# Altium footprint library PcbLib.PcbLib: 44 footprints (part 2 of 3)
Each footprint in its own frame and in the unit in brackets; x right, y up, seen from the top. Pads: shape width x height; smd on the part's side, far side on the other; paste and mask are expansions set on the pad; w line width, h text height; cw(c..) or ccw(c..) is an arc to the next point about the centre after c.
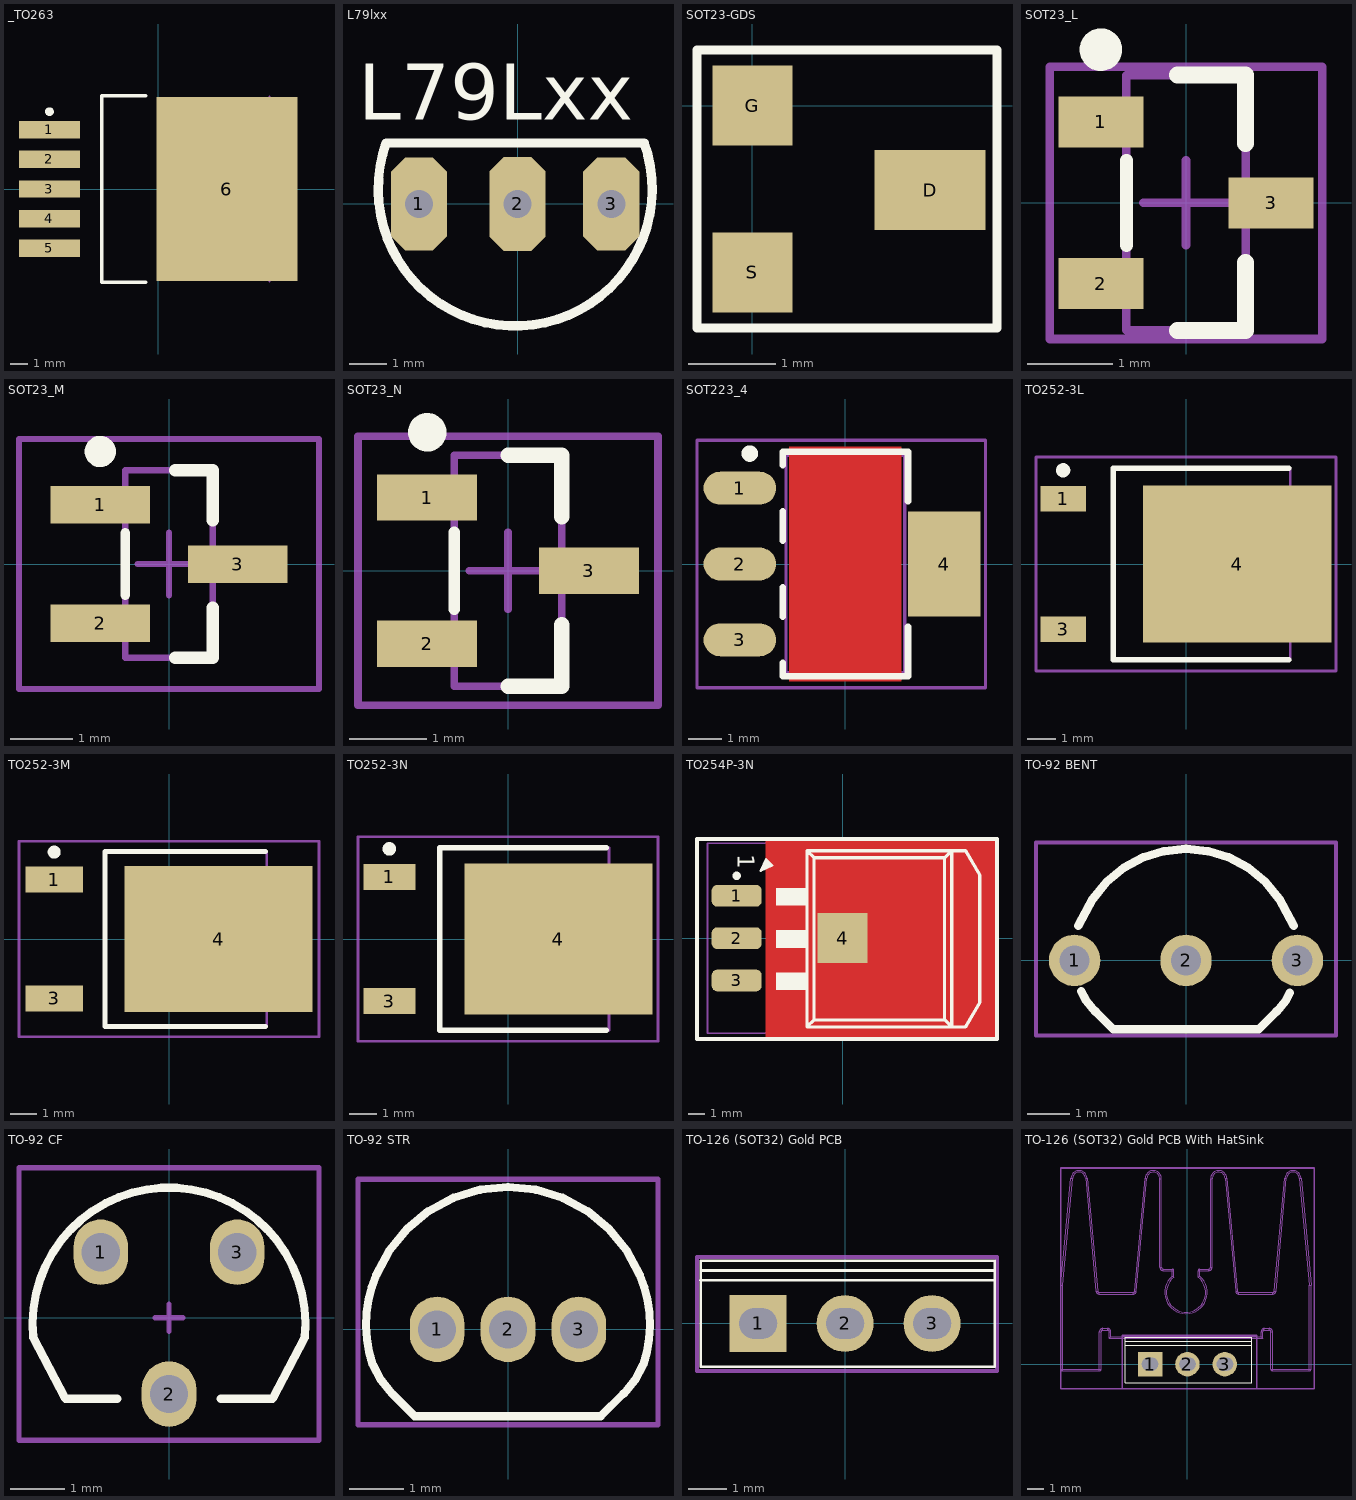
[diagram p1: the footprints below, top view; thin cyan lines are the x and y axes]

## _TO263 [mm] "D2-PAK, 6-Leads, Body 8.9x10.2mm, Pitch 1.7mm, Lead Span 15.2mm, IPC High Density"
height 4.83
pads (6):
  rect 3.5x1 smd: 1(-6.25,3.4) 2(-6.25,1.7) 3(-6.25,0) 4(-6.25,-1.7) 5(-6.25,-3.4)
  rect 8.1x10.6 smd: 6(3.95,0)
Top Overlay:
  circle w0.25: c-6.25,4.45 r0.125
  lines w0.2: -0.7,-5.35 -3.25,-5.35 -3.25,5.35 -0.7,5.35
Mechanical 13:
  lines w0.1: -3.25,-5.325 -3.25,5.325 ; 6.4,-5.325 6.4,5.325

## L79lxx [mil] "Negative Voltage Regulator"
pads (3):
  oct 60x99.37 hole 30: 1(-105,0) 3(100,0)
  oct 60x100 hole 30: 2(0,0)
Top Overlay:
  lines w10: -140,65 ccw(c-2.5,15.96) 135,65 -140,65
  text "L79Lxx" at -170,90 h60

## SOT23-GDS [mil]
pads (3):
  rect 50x36 smd: D(80,-38)
  rect 36x36 smd: G(0,0) S(0,-75)
Top Overlay:
  lines w4: -24.88,11.02 -24.88,12.02 ; -24.88,15.02 -24.88,25.02 ; -10.88,25.02 -8.88,25.02 ; -9.88,25.02 -24.88,25.02 ; -24.88,25.02 -24.88,-99.98 110.12,-99.98 110.12,25.02 -24.88,25.02
3D body "SW3dPS-3-lead sot23-3.STEP": height 40.59, standoff 0.43, extent -3.48,-95 94,19.96

## SOT23_L [mm] "SOT23, 3-Leads, Body 2.9x1.3mm, Pitch 0.95mm, Lead Span 2.3mm, IPC High Density"
height 1.1
pads (3):
  rect 1x0.6 smd: 1(-1,0.95) 2(-1,-0.95) 3(1,0)
Top Overlay:
  circle w0.25: c-1,1.8 r0.125
  lines w0.15: -0.7,-0.5 -0.7,0.5
  lines w0.2: -0.1,-1.5 0.7,-1.5 0.7,-0.7 ; -0.1,1.5 0.7,1.5 0.7,0.7
Mechanical 13:
  lines w0.1: -0.7,-1.5 -0.7,1.5 0.7,1.5 0.7,-1.5 -0.7,-1.5
Mechanical 15:
  lines w0.1: -0.5,0 0.5,0 ; 0,-0.5 0,0.5 ; -1.6,-1.6 -1.6,1.6 1.6,1.6 1.6,-1.6 -1.6,-1.6
3D body "User Library-SOT-23-3-1.STEP": height 1.1, standoff 0, extent -1.271,-1.5 1.271,1.5

## SOT23_M [mm] "SOT23, 3-Leads, Body 2.9x1.3mm, Pitch 0.95mm, Lead Span 2.3mm, IPC Low Density"
height 1.1
pads (3):
  rect 1.6x0.6 smd: 1(-1.1,0.95) 2(-1.1,-0.95) 3(1.1,0)
Top Overlay:
  circle w0.25: c-1.1,1.8 r0.125
  lines w0.15: -0.7,-0.5 -0.7,0.5
  lines w0.2: 0.1,-1.5 0.7,-1.5 0.7,-0.7 ; 0.1,1.5 0.7,1.5 0.7,0.7
Mechanical 13:
  lines w0.1: -0.7,-1.5 0.7,-1.5 0.7,1.5 -0.7,1.5 -0.7,-1.5
Mechanical 15:
  lines w0.1: -0.5,0 0.5,0 ; 0,-0.5 0,0.5 ; -2.4,-2 2.4,-2 2.4,2 -2.4,2 -2.4,-2
3D body "User Library-SOT-23-3-1.STEP": height 1.1, standoff 0, extent -1.271,-1.5 1.271,1.5

## SOT23_N [mm] "SOT23, 3-Leads, Body 2.9x1.3mm, Pitch 0.95mm, Lead Span 2.3mm, IPC Medium Density"
height 1.1
pads (3):
  rect 1.3x0.6 smd: 1(-1.05,0.95) 2(-1.05,-0.95) 3(1.05,0)
Top Overlay:
  circle w0.25: c-1.05,1.8 r0.125
  lines w0.15: -0.7,-0.5 -0.7,0.5
  lines w0.2: 0,-1.5 0.7,-1.5 0.7,-0.7 ; 0,1.5 0.7,1.5 0.7,0.7
Mechanical 13:
  lines w0.1: -0.7,-1.5 -0.7,1.5 0.7,1.5 0.7,-1.5 -0.7,-1.5
Mechanical 15:
  lines w0.1: -0.5,0 0.5,0 ; 0,-0.5 0,0.5 ; -1.95,-1.75 -1.95,1.75 1.95,1.75 1.95,-1.75 -1.95,-1.75
3D body "User Library-SOT-23-3-1.STEP": height 1.1, standoff 0, extent -1.271,-1.5 1.271,1.5

## SOT223_4 [mm] "SOT223, 4-Leads, Body 6.5x3.5mm, Pitch 2.30mm-Designer Abbas Basereh"
height 1.8
pads (4):
  oval 2.2x1 smd: 1(-3.2,2.3) 2(-3.2,0) 3(-3.2,-2.3)
  rect 2.2x3.2 smd: 4(3,0)
Top Layer:
  pour cut-out: -1.7,3.556 1.7,3.556 1.7,-3.556 -1.7,-3.556
Top Overlay:
  circle w0.25: c-2.9,3.35 r0.125
  lines w0.2: -1.9,-3 -1.9,-3.4 1.9,-3.4 1.9,-1.9 ; -1.9,-1.6 -1.9,-0.7 ; -1.9,0.7 -1.9,1.6 ; -1.9,3 -1.9,3.4 1.9,3.4 1.9,1.9
Mechanical 13:
  lines w0.1: -1.8,-3.3 -1.8,3.3 1.8,3.3 1.8,-3.3 -1.8,-3.3
Mechanical 15:
  lines w0.1: -0.5,0 0.5,0 ; 0,-0.5 0,0.5 ; -4.5,-3.75 4.25,-3.75 4.25,3.75 -4.5,3.75 -4.5,-3.75
3D body "User Library-SOT223-3.step": height 1.7, standoff 0, extent -3.5,-3.25 3.5,3.25

## TO252-3L [mm] "D-PAK, 3-Pads, Body 6.2x6.7mm (max), IPC High Density"
height 2.38
pads (3):
  rect 1.6x0.9 smd: 1(-4.3,2.28) 3(-4.3,-2.28)
  rect 6.6x5.5 smd: 4(1.8,0)
Top Overlay:
  circle w0.25: c-4.3,3.28 r0.125
  lines w0.2: 3.6,-3.35 -2.55,-3.35 -2.55,3.35 3.6,3.35
Mechanical 13:
  lines w0.1: -2.55,-3.35 -2.55,3.35 3.65,3.35 3.65,-3.35 -2.55,-3.35
Mechanical 15:
  lines w0.1: -0.5,0 0.5,0 ; 0,-0.5 0,0.5 ; -5.25,-3.75 -5.25,3.75 5.25,3.75 5.25,-3.75 -5.25,-3.75
3D body "User Library-DPAK-1.step": height 2.39, standoff -0.02, extent -5.061,-3.27 4.878,3.27

## TO252-3M [mm] "D-PAK, 3-Pads, Body 6.2x6.7mm (max), IPC Low Density"
height 2.38
pads (3):
  rect 2.2x1 smd: 1(-4.4,2.28) 3(-4.4,-2.28)
  rect 7.2x5.6 smd: 4(1.9,0)
Top Overlay:
  circle w0.25: c-4.4,3.33 r0.125
  lines w0.2: 3.7,-3.35 -2.45,-3.35 -2.45,3.35 3.7,3.35
Mechanical 13:
  lines w0.1: -2.45,-3.35 3.75,-3.35 3.75,3.35 -2.45,3.35 -2.45,-3.35
Mechanical 15:
  lines w0.1: -0.5,0 0.5,0 ; 0,-0.5 0,0.5 ; -5.75,-3.75 -5.75,3.75 5.75,3.75 5.75,-3.75 -5.75,-3.75
3D body "User Library-DPAK-1.step": height 2.39, standoff -0.02, extent -5.061,-3.27 4.878,3.27

## TO252-3N [mm] "D-PAK, 3-Pads, Body 6.2x6.7mm (max), IPC Medium Density"
height 2.38
pads (3):
  rect 1.9x0.95 smd: 1(-4.35,2.28) 3(-4.35,-2.28)
  rect 6.9x5.55 smd: 4(1.85,0)
Top Overlay:
  circle w0.25: c-4.35,3.305 r0.125
  lines w0.2: 3.6,-3.35 -2.5,-3.35 -2.5,3.35 3.6,3.35
Mechanical 13:
  lines w0.1: -2.5,-3.35 3.7,-3.35 3.7,3.35 -2.5,3.35 -2.5,-3.35
Mechanical 15:
  lines w0.1: -0.5,0 0.5,0 ; 0,-0.5 0,0.5 ; -5.5,-3.75 5.5,-3.75 5.5,3.75 -5.5,3.75 -5.5,-3.75
3D body "User Library-DPAK-1.step": height 2.39, standoff -0.02, extent -5.061,-3.27 4.878,3.27

## TO254P-3N [mm]
pads (4):
  rrect50% 3x1.3 smd: 1(-6.35,2.54) 2(-6.35,0) 3(-6.35,-2.54)
  rect 3x3 smd: 4(0,0)
Top Layer:
  region: -4.634,5.949 -4.634,-6.051 9.258,-6.051 9.258,5.949
Top Overlay:
  circle w0.25: c-6.35,3.742 r0.125
  region: -3.988,3.022 -3.988,1.956 -2.108,1.956 -2.108,3.022
  region: -3.988,-2.057 -3.988,-3.124 -2.108,-3.124 -2.108,-2.057
  region: -3.988,0.483 -3.988,-0.584 -2.108,-0.584 -2.108,0.483
  lines w0.127: -4.919,4.028 -4.208,4.358 -4.4,4.547 ; -4.919,4.028 -4.589,4.739 -4.4,4.547 ; -4.919,4.028 -4.4,4.547
  lines w0.178: -4.716,4.383 -4.538,4.561 ; -4.564,4.231 -4.386,4.409
  lines w0.2: -2.134,-5.329 -2.134,5.254 ; -2.134,-5.329 6.545,-5.329 ; -2.134,-5.329 -1.71,-4.906 ; -2.134,5.254 6.545,5.254 ; -2.134,5.254 -1.71,4.831 ; -1.71,-4.906 6.121,-4.906 ; -1.71,-4.906 -1.71,4.831 ; -1.71,4.831 6.121,4.831 ; 6.121,-4.906 6.121,4.831 ; 6.121,-4.906 6.545,-5.329 ; 6.121,4.831 6.545,5.254 ; 6.545,-5.329 6.545,5.254 ; 6.545,-5.329 7.366,-5.329 8.238,-3.847 8.238,3.773 7.366,5.254 6.545,5.254
  lines w0.254: -8.731,-6.051 9.269,-6.051 9.269,5.949 -8.731,5.949 -8.731,-6.051
  text "1" at -6.299,5.026 h1
Top Paste:
  region: -0.431,3.773 -0.431,-3.847 7.595,-3.847 7.595,3.773
Top Solder:
  region: -2.413,5.505 -2.413,-5.621 8.179,-5.621 8.179,5.505
  lines w0.254: 8.554,-3.938 8.131,-5.419 ; 8.554,3.863 8.131,5.344 ; -2.462,-5.329 ccw(c-2.134,-5.329) -2.134,-5.658 ; -2.462,-5.329 ccw(c-2.134,-5.329) -2.134,-5.658 ; -2.462,-5.329 -2.462,5.254 ; -2.462,5.254 cw(c-2.134,5.254) -2.134,5.583 ; -2.462,5.254 cw(c-2.134,5.254) -2.134,5.583 ; -2.134,-5.658 6.545,-5.658 7.815,-5.658 ; -2.134,5.583 6.545,5.583 7.815,5.583 ; 7.815,-5.658 ccw(c7.815,-5.329) 8.131,-5.42 ; 7.815,-5.658 ccw(c7.815,-5.329) 8.131,-5.42 ; 7.815,5.583 cw(c7.815,5.254) 8.131,5.345 ; 7.815,5.583 cw(c7.815,5.254) 8.131,5.345 ; 8.567,-3.847 cw(c8.238,-3.847) 8.554,-3.938 ccw(c8.238,-3.847) 8.567,-3.847 ; 8.567,-3.847 8.567,3.773 ; 8.567,3.773 ccw(c8.238,3.773) 8.554,3.863 cw(c8.238,3.773) 8.567,3.773
  lines w0.508: 8.196,-4.669 8.196,4.577
Mechanical 13:
  lines w0.1: -2.675,-4.985 -2.675,4.985 6.475,4.985 6.475,-4.985 -2.675,-4.985
Mechanical 15:
  lines w0.1: -0.5,0 0.5,0 ; 0,-0.5 0,0.5 ; -8.1,-5.7 -8.1,5.7 8.1,5.7 8.1,-5.7 -8.1,-5.7
3D body "254-3.STEP": height 2.53, standoff -0.02, extent -7.339,-5.087 8.101,5.08

## TO-92 BENT [mm] "DESIGNER :ABBAS BASEREH"
height 8
pads (3):
  round 1.2 hole 0.7: 1(-2.6,0) 2(0,0) 3(2.6,0)
Top Overlay:
  lines w0.2: -2.512,0.806 -2.173,1.441 -1.848,1.837 -1.452,2.162 -1,2.403 -0.51,2.552 0,2.602 0.51,2.552 1,2.403 1.452,2.162 1.848,1.837 2.173,1.441 2.512,0.806 ; -2.443,-0.723 -2.326,-0.941 -2.118,-1.195 -2.112,-1.189 -1.7,-1.601 1.7,-1.601 2.112,-1.189 2.118,-1.195 2.326,-0.941 2.424,-0.759
Mechanical 15:
  lines w0.1: -3.5,-1.75 3.5,-1.75 3.5,2.75 -3.5,2.75 -3.5,-1.75
3D body "User Library-TO-92_Bent.STEP": height 10, standoff -3, extent -2.79,-1.59 2.79,2.613

## TO-92 CF [mm] "DESIGNER :ABBAS BASEREH"
height 8.5
pads (3):
  oval 1x1.2 hole 0.7: 1(-1.25,1.2) 2(0,-1.4) 3(1.25,1.2)
Top Overlay:
  lines w0.15: -0.95,-1.485 -1.9,-1.485 -2.487,-0.365 cw(c0,-0.115) 2.487,-0.365 1.9,-1.485 0.95,-1.485
Mechanical 15:
  lines w0.1: -0.25,0 0.25,0 ; 0,-0.25 0,0.25 ; -2.75,-2.25 2.75,-2.25 2.75,2.75 -2.75,2.75 -2.75,-2.25
3D body "User Library-TO-92_CF127SB127.STEP": height 8.5, standoff -4, extent -2.5,-1.57 2.5,2.4

## TO-92 STR [mm] "DESIGNER :ABBAS BASEREH"
height 7
pads (3):
  oval 1x1.2 hole 0.7 mask+0.06: 1(-1.3,0) 2(0,0) 3(1.3,0)
Top Overlay:
  lines w0.15: -2.481,-0.642 cw(c-0.325,0.092) -2.414,0.999 -2.173,1.45 -1.848,1.846 -1.452,2.171 -1,2.413 -0.51,2.562 0,2.612 0.51,2.562 1,2.413 1.452,2.171 1.848,1.846 2.173,1.45 2.414,0.999 cw(c0.325,0.092) 2.481,-0.642 2.326,-0.931 2.118,-1.185 2.112,-1.18 1.7,-1.592 -1.712,-1.592 -2.118,-1.185 -2.326,-0.931 -2.481,-0.642
Mechanical 15:
  lines w0.1: -2.75,-1.75 -2.75,2.75 2.75,2.75 2.75,-1.75 -2.75,-1.75
3D body "User Library-TO-92_Str.STEP": height 10, standoff -3, extent -2.613,-1.591 2.613,2.613

## TO-126 (SOT32) Gold PCB [mm] "Design:Abbas Basereh"
height 16
pads (3):
  rect 1.5x1.5 hole 0.8 slot 1 at 0 deg: 1(-2.29,0)
  round 1.5 hole 0.8 slot 1 at 0 deg: 2(0,0) 3(2.29,0)
Top Overlay:
  lines w0.07: -3.81,1.143 3.937,1.143 3.937,1.651 ; -3.8,1.397 3.937,1.397 ; 3.937,1.651 3.937,-1.143 -3.8,-1.143 -3.8,1.651 3.937,1.651
Mechanical 15:
  lines w0.1: -3.9,-1.25 4,-1.25 4,1.75 -3.9,1.75 -3.9,-1.25
3D body "User Library-TO-126 (SOT32) Gold PCB.STEP": height 13.19, standoff -3.54, extent -3.8,-1 3.8,1.55

## TO-126 (SOT32) Gold PCB With HatSink [mm] "Design:Abbas Basereh"
height 16
pads (3):
  rect 1.5x1.5 hole 0.8 slot 1 at 0 deg: 1(-2.29,0)
  round 1.5 hole 0.8 slot 1 at 0 deg: 2(0,0) 3(2.29,0)
Top Overlay:
  lines w0.07: -3.81,1.143 3.937,1.143 3.937,1.651 ; -3.8,1.397 3.937,1.397 ; 3.937,1.651 -3.8,1.651 -3.8,-1.143 3.937,-1.143 3.937,1.651
Mechanical 1:
  lines w0.013: -7.74,-0.318 ccw(c-7.64,-0.318) -7.64,-0.418 ; -5.498,4.473 ccw(c-5.399,4.482) -5.399,4.382 ; -5.39,-0.418 ccw(c-5.39,-0.318) -5.29,-0.318 ; -5.29,1.982 cw(c-5.19,1.982) -5.19,2.082 ; -4.89,2.082 cw(c-4.89,1.982) -4.79,1.982 ; -3.327,4.382 ccw(c-3.327,4.482) -3.227,4.473 ; -1.59,5.919 ccw(c-1.49,5.919) -1.49,5.819 ; -0.94,5.819 cw(c-0.94,5.719) -0.84,5.719 ; 0.66,5.719 cw(c0.76,5.719) 0.76,5.819 ; 1.31,5.819 ccw(c1.31,5.919) 1.41,5.919 ; 3.047,4.473 ccw(c3.147,4.482) 3.147,4.382 ; 4.61,1.982 cw(c4.71,1.982) 4.71,2.082 ; 5.01,2.082 cw(c5.01,1.982) 5.11,1.982 ; 5.11,-0.318 ccw(c5.21,-0.318) 5.21,-0.418 ; 5.219,4.382 ccw(c5.219,4.482) 5.318,4.473 ; 7.46,-0.418 ccw(c7.46,-0.318) 7.56,-0.318
  lines w0.05: -7.74,4.832 -7.74,-0.318 -7.64,-0.318 ; -7.74,4.832 -7.64,4.827 ; -7.74,4.832 -7.133,11.388 ; -7.64,-0.318 -5.39,-0.318 ; -7.64,-0.318 -7.64,4.827 ; -7.64,-0.318 -7.64,-0.418 -5.39,-0.418 -5.39,-0.318 ; -7.64,4.827 -7.034,11.379 ; -7.133,11.388 cw(c-6.636,11.342) -6.138,11.388 ; -7.133,11.388 -7.034,11.379 ; -7.034,11.379 cw(c-6.636,11.342) -6.237,11.379 ; -6.237,11.379 -5.598,4.464 ; -6.237,11.379 -6.138,11.388 ; -6.138,11.388 -5.498,4.473 -5.598,4.464 ; -5.598,4.464 ccw(c-5.399,4.482) -5.399,4.282 ; -5.399,4.282 -3.327,4.282 ; -5.399,4.282 -5.399,4.382 -3.327,4.382 -3.327,4.282 ; -5.39,-0.318 -5.39,1.982 ; -5.39,-0.318 -5.29,-0.318 -5.29,1.982 -5.39,1.982 ; -5.39,1.982 cw(c-5.19,1.982) -5.19,2.182 ; -5.19,2.182 -4.89,2.182 ; -5.19,2.182 -5.19,2.082 -4.89,2.082 -4.89,2.182 ; -4.89,2.182 cw(c-4.89,1.982) -4.69,1.982 ; -4.79,1.582 4.61,1.582 ; -4.79,1.582 -4.69,1.682 ; -4.79,1.582 -4.79,1.982 -4.69,1.982 ; -4.69,1.682 4.51,1.682 ; -4.69,1.682 -4.69,1.982 ; -3.327,4.282 ccw(c-3.327,4.482) -3.128,4.464 ; -3.128,4.464 -2.488,11.379 ; -3.128,4.464 -3.227,4.473 -2.588,11.388 ; -2.588,11.388 cw(c-2.09,11.342) -1.59,11.342 ; -2.588,11.388 -2.488,11.379 ; -2.488,11.379 cw(c-2.09,11.342) -1.69,11.342 ; -1.69,5.919 ccw(c-1.49,5.919) -1.49,5.719 ; -1.69,5.919 -1.69,11.342 ; -1.69,5.919 -1.59,5.919 -1.59,11.342 ; -1.69,11.342 -1.59,11.342 ; -1.49,5.719 -0.94,5.719 ; -1.49,5.719 -1.49,5.819 -0.94,5.819 -0.94,5.719 ; -0.94,5.366 cw(c-3.387,0.015) -0.84,5.319 ; -0.94,5.366 ccw(c-0.09,4.382) 0.76,5.366 ; -0.94,5.366 -0.94,5.719 ; -0.94,5.719 -0.84,5.719 -0.84,5.319 ; -0.84,5.319 ccw(c-0.09,4.382) 0.66,5.319 ; 0.66,5.319 cw(c3.206,0.015) 0.76,5.366 ; 0.66,5.319 0.66,5.719 0.76,5.719 ; 0.76,5.366 0.76,5.719 ; 0.76,5.719 1.31,5.719 ; 0.76,5.719 0.76,5.819 1.31,5.819 1.31,5.719 ; 1.31,5.719 ccw(c1.31,5.919) 1.51,5.919 ; 1.41,11.342 cw(c1.91,11.342) 2.408,11.388 ; 1.41,11.342 1.41,5.919 1.51,5.919 ; 1.41,11.342 1.51,11.342 ; 1.51,5.919 1.51,11.342 ; 1.51,11.342 cw(c1.91,11.342) 2.308,11.379 ; 2.308,11.379 2.947,4.464 ; 2.308,11.379 2.408,11.388 ; 2.408,11.388 3.047,4.473 2.947,4.464 ; 2.947,4.464 ccw(c3.147,4.482) 3.147,4.282 ; 3.147,4.282 5.219,4.282 ; 3.147,4.282 3.147,4.382 5.219,4.382 5.219,4.282 ; 4.51,1.682 4.61,1.582 ; 4.51,1.682 4.51,1.982 ; 4.51,1.982 cw(c4.71,1.982) 4.71,2.182 ; 4.51,1.982 4.61,1.982 4.61,1.582 ; 4.71,2.182 5.01,2.182 ; 4.71,2.182 4.71,2.082 5.01,2.082 5.01,2.182 ; 5.01,2.182 cw(c5.01,1.982) 5.21,1.982 ; 5.21,-0.318 7.46,-0.318 ; 5.21,-0.318 5.21,1.982 ; 5.21,-0.318 5.21,-0.418 7.46,-0.418 7.46,-0.318 ; 5.21,-0.318 5.11,-0.318 5.11,1.982 5.21,1.982 ; 5.219,4.282 ccw(c5.219,4.482) 5.418,4.464 ; 5.418,4.464 6.057,11.379 ; 5.418,4.464 5.318,4.473 5.958,11.388 ; 5.958,11.388 cw(c6.455,11.342) 6.953,11.388 ; 5.958,11.388 6.057,11.379 ; 6.057,11.379 cw(c6.455,11.342) 6.854,11.379 ; 6.854,11.379 7.46,4.827 ; 6.854,11.379 6.953,11.388 ; 6.953,11.388 7.56,4.832 ; 7.46,-0.318 7.56,-0.318 7.56,4.832 ; 7.46,-0.318 7.46,4.827 ; 7.46,4.827 7.56,4.832
Mechanical 15:
  lines w0.1: -4,-1.5 -4,1.75 4.25,1.75 4.25,-1.5 ; -7.75,-1.5 -7.75,12 7.75,12 7.75,-1.5 -7.75,-1.5
3D body "User Library-TO-126 (SOT32) Gold PCB.STEP": height 13.19, standoff -3.54, extent -3.8,-1 3.8,1.55
3D body "User Library-Heatsink-57AS.STEP": height 26.5, standoff 1.5, extent -7.68,-0.381 7.62,11.878